# EAGLE library part UPC2500A (library Audio-Power-amlifier V.2.0)
45W AF power amplifier.
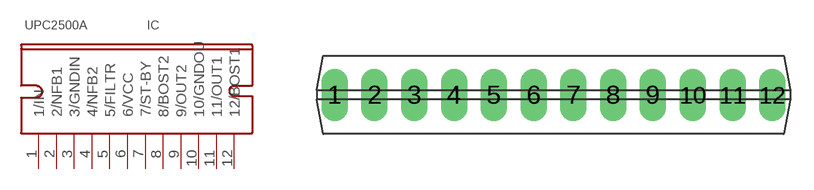
[diagram p80: symbol with the pads of SIP12; footprint SIP12]

Designator prefix IC

## UPC2500A  [SIP12]
1  1/IN  in
2  2/NFB1
3  3/GNDIN  pwr
4  4/NFB2
5  5/FILTR
6  6/VCC  pwr
7  7/ST-BY
8  8/BOST2
9  9/OUT2  out
10  10/GNDOU  pwr
11  11/OUT1  out
12  12/BOST1

## Footprint SIP12 (pad centres in mm)
drill 0.8 pad 1.676 long: 1 -13.97,0; 2 -11.43,0; 3 -8.89,0; 4 -6.35,0; 5 -3.81,0; 6 -1.27,0; 7 1.27,0; 8 3.81,0; 9 6.35,0; 10 8.89,0; 11 11.43,0; 12 13.97,0